# Altium integrated library Johanson Technology RF Baluns.IntLib: 1 symbol
Pins are listed as number, name and electrical type; pins without a type are passive.

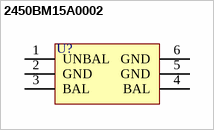
[diagram p0: symbol 2450BM15A0002]

## 2450BM15A0002
designator U?
RF Balun 2.4GHz ~ 2.5GHz 50 / - Ohm 0805 (2012 Metric); Manufacturer: Johanson Technology, Inc.; PartNumber: 2450BM15A0002; Package: 0805 (2012 Metric); PackageDescription: 6-Pin 0805; Body Size 2.0mm(L) x 1.25mm(W); Supplier 1: Digi-Key; Supplier Part Number 1: 712-1536-2-ND
footprint 2450BM15A0002 (Balun, 6-Leads, Body 2.0x1.25mm, Pitch 0.65mm)
pins: 1 UNBAL, 2 GND, 3 BAL, 4 BAL, 5 GND, 6 GND